# Altium footprint library IC_SOP.PcbLib: 32 footprints (part 3 of 4)
Each footprint in its own frame and in the unit in brackets; x right, y up, seen from the top. Pads: shape width x height; smd on the part's side, far side on the other; paste and mask are expansions set on the pad; w line width, h text height; cw(c..) or ccw(c..) is an arc to the next point about the centre after c.
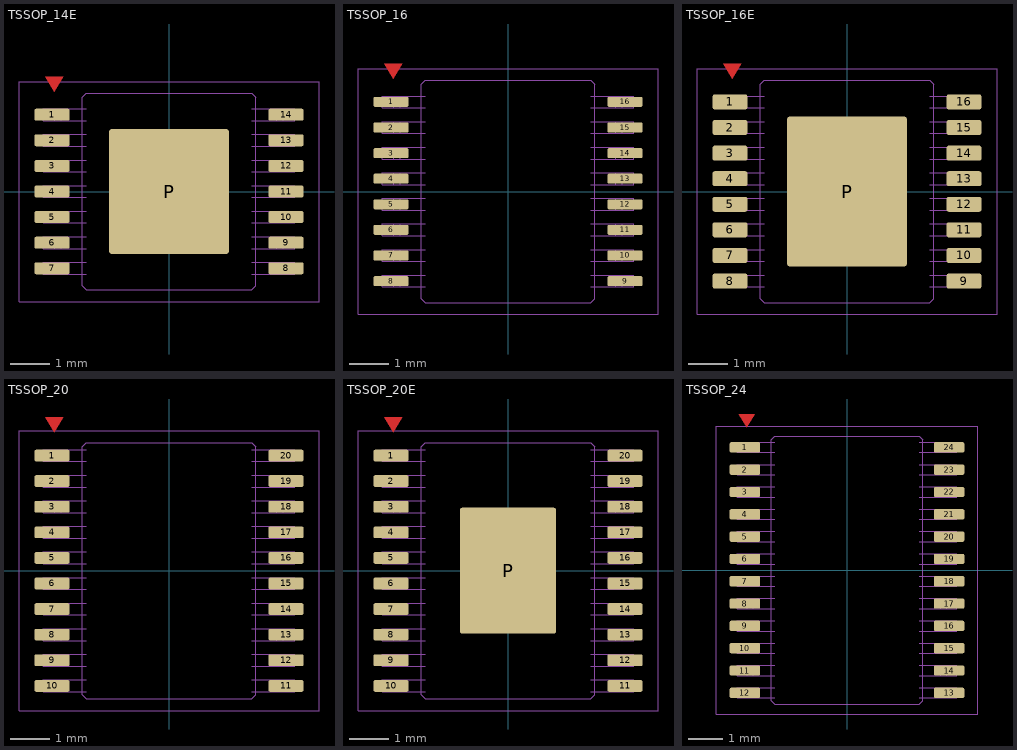
[diagram p2: the footprints below, top view; thin cyan lines are the x and y axes]

## TSSOP_14E [mil]
pads (15):
  rrect30% 35x12 smd mask+2: 1(-117,76.77) 2(-117,51.18) 3(-117,25.59) 4(-117,0) 5(-117,-25.59) 6(-117,-51.18) 7(-117,-76.77) 8(117,-76.77) 9(117,-51.18) 10(117,-25.59) 11(117,0) 12(117,25.59) 13(117,51.18) 14(117,76.77)
  rrect5% 120x125 smd paste-200 mask+2: P(0,0)
Top Layer:
  region: -115,100 -106,115 -124,115
Top Paste:
  rectangle: -55,-55 -25,-25
  rectangle: -55,-15 -25,15
  rectangle: -55,25 -25,55
  rectangle: 25,25 55,55
  rectangle: 25,-15 55,15
  rectangle: 25,-55 55,-25
  rectangle: -15,-55 15,-25
  rectangle: -15,-15 15,15
  rectangle: -15,25 15,55
Mechanical 15:
  lines w1: -150,-110 150,-110 150,110 -150,110 -150,-110
Mechanical 16:
  lines w1: -114.17,-82.68 -114.17,-70.87 ; -114.17,-57.09 -114.17,-45.28 ; -114.17,-31.5 -114.17,-19.68 ; -114.17,-5.91 -114.17,5.91 ; -114.17,19.68 -114.17,31.5 ; -114.17,45.28 -114.17,57.09 ; -114.17,70.87 -114.17,82.68 ; -107.53,-82.68 -107.53,-70.87 ; -107.53,-57.09 -107.53,-45.28 ; -107.53,-31.5 -107.53,-19.68 ; -107.53,-5.91 -107.53,5.91 ; -107.53,19.68 -107.53,31.5 ; -107.53,45.28 -107.53,57.09 ; -107.53,70.87 -107.53,82.68 ; -82.68,-82.68 -125.98,-82.68 -125.98,-70.87 -82.68,-70.87 ; -82.68,-57.09 -125.98,-57.09 -125.98,-45.28 -82.68,-45.28 ; -82.68,-31.5 -125.98,-31.5 -125.98,-19.68 -82.68,-19.68 ; -82.68,-5.91 -125.98,-5.91 -125.98,5.91 -82.68,5.91 ; -82.68,19.68 -125.98,19.68 -125.98,31.5 -82.68,31.5 ; -82.68,45.28 -125.98,45.28 -125.98,57.09 -82.68,57.09 ; -82.68,70.87 -125.98,70.87 -125.98,82.68 -82.68,82.68 ; 82.68,-82.68 125.98,-82.68 125.98,-70.87 82.68,-70.87 ; 82.68,-57.09 125.98,-57.09 125.98,-45.28 82.68,-45.28 ; 82.68,-31.5 125.98,-31.5 125.98,-19.68 82.68,-19.68 ; 82.68,-5.91 125.98,-5.91 125.98,5.91 82.68,5.91 ; 82.68,19.69 125.98,19.69 125.98,31.5 82.68,31.5 ; 82.68,45.28 125.98,45.28 125.98,57.09 82.68,57.09 ; 82.68,70.87 125.98,70.87 125.98,82.68 82.68,82.68 ; 107.53,-82.68 107.53,-70.87 ; 107.53,-57.09 107.53,-45.28 ; 107.53,-31.5 107.53,-19.68 ; 107.53,-5.91 107.53,5.91 ; 107.53,19.69 107.53,31.5 ; 107.53,45.28 107.53,57.09 ; 107.53,70.87 107.53,82.68 ; 114.17,-82.68 114.17,-70.87 ; 114.17,-57.09 114.17,-45.28 ; 114.17,-31.5 114.17,-19.68 ; 114.17,-5.91 114.17,5.91 ; 114.17,19.69 114.17,31.5 ; 114.17,45.28 114.17,57.09 ; 114.17,70.87 114.17,82.68 ; -86.61,-94.49 -86.61,94.49 -82.68,98.43 82.68,98.43 86.61,94.49 86.61,-94.49 82.68,-98.43 -82.68,-98.43 -86.61,-94.49
3D body: height 40, standoff 0, extent -86.61,-98.43 86.61,98.43
3D body: height 24, standoff 17, extent -107.53,70.87 -82.68,82.68
3D body: height 24, standoff 0, extent -114.17,70.87 -107.53,82.68
3D body: height 7, standoff 0, extent -125.98,70.87 -114.17,82.68
3D body: height 7, standoff 0, extent -125.98,45.28 -114.17,57.09
3D body: height 24, standoff 0, extent -114.17,45.28 -107.53,57.09
3D body: height 24, standoff 17, extent -107.53,45.28 -82.68,57.09
3D body: height 7, standoff 0, extent -125.98,19.68 -114.17,31.5
3D body: height 24, standoff 0, extent -114.17,19.68 -107.53,31.5
3D body: height 24, standoff 17, extent -107.53,19.68 -82.68,31.5
3D body: height 7, standoff 0, extent -125.98,-5.91 -114.17,5.91
3D body: height 24, standoff 0, extent -114.17,-5.91 -107.53,5.91
3D body: height 24, standoff 17, extent -107.53,-5.91 -82.68,5.91
3D body: height 7, standoff 0, extent -125.98,-31.5 -114.17,-19.68
3D body: height 24, standoff 0, extent -114.17,-31.5 -107.53,-19.68
3D body: height 24, standoff 17, extent -107.53,-31.5 -82.68,-19.68
3D body: height 7, standoff 0, extent -125.98,-57.09 -114.17,-45.28
3D body: height 24, standoff 0, extent -114.17,-57.09 -107.53,-45.28
3D body: height 24, standoff 17, extent -107.53,-57.09 -82.68,-45.28
3D body: height 7, standoff 0, extent -125.98,-82.68 -114.17,-70.87
3D body: height 24, standoff 0, extent -114.17,-82.68 -107.53,-70.87
3D body: height 24, standoff 17, extent -107.53,-82.68 -82.68,-70.87
3D body: height 24, standoff 17, extent 82.68,70.87 107.53,82.68
3D body: height 24, standoff 0, extent 107.53,70.87 114.17,82.68
3D body: height 7, standoff 0, extent 114.17,70.87 125.98,82.68
3D body: height 24, standoff 17, extent 82.68,45.28 107.53,57.09
3D body: height 24, standoff 0, extent 107.53,45.28 114.17,57.09
3D body: height 7, standoff 0, extent 114.17,45.28 125.98,57.09
3D body: height 24, standoff 17, extent 82.68,19.69 107.53,31.5
3D body: height 24, standoff 0, extent 107.53,19.69 114.17,31.5
3D body: height 7, standoff 0, extent 114.17,19.69 125.98,31.5
3D body: height 24, standoff 17, extent 82.68,-5.91 107.53,5.91
3D body: height 24, standoff 0, extent 107.53,-5.91 114.17,5.91
3D body: height 7, standoff 0, extent 114.17,-5.91 125.98,5.91
3D body: height 24, standoff 17, extent 82.68,-31.5 107.53,-19.68
3D body: height 24, standoff 0, extent 107.53,-31.5 114.17,-19.68
3D body: height 7, standoff 0, extent 114.17,-31.5 125.98,-19.68
3D body: height 24, standoff 17, extent 82.68,-57.09 107.53,-45.28
3D body: height 24, standoff 0, extent 107.53,-57.09 114.17,-45.28
3D body: height 7, standoff 0, extent 114.17,-57.09 125.98,-45.28
3D body: height 7, standoff 0, extent 114.17,-82.68 125.98,-70.87
3D body: height 24, standoff 0, extent 107.53,-82.68 114.17,-70.87
3D body: height 24, standoff 17, extent 82.68,-82.68 107.53,-70.87

## TSSOP_16 [mil]
pads (16):
  rrect30% 35x10 smd mask+2: 1(-117,89.57) 2(-117,63.98) 3(-117,38.39) 4(-117,12.8) 5(-117,-12.8) 6(-117,-38.39) 7(-117,-63.98) 8(-117,-89.57) 9(117,-89.57) 10(117,-63.98) 11(117,-38.39) 12(117,-12.8) 13(117,12.8) 14(117,38.39) 15(117,63.98) 16(117,89.57)
Top Layer:
  region: -115,112.8 -106,127.8 -124,127.8
Mechanical 15:
  lines w1: -150,-122.8 -150,122.8 150,122.8 150,-122.8 -150,-122.8
Mechanical 16:
  lines w1: -114.17,-95.47 -114.17,-83.66 ; -114.17,-69.88 -114.17,-58.07 ; -114.17,-44.29 -114.17,-32.48 ; -114.17,-18.7 -114.17,-6.89 ; -114.17,6.89 -114.17,18.7 ; -114.17,32.48 -114.17,44.29 ; -114.17,58.07 -114.17,69.88 ; -114.17,83.66 -114.17,95.47 ; -107.53,-95.47 -107.53,-83.66 ; -107.53,-69.88 -107.53,-58.07 ; -107.53,-44.29 -107.53,-32.48 ; -107.53,-18.7 -107.53,-6.89 ; -107.53,6.89 -107.53,18.7 ; -107.53,32.48 -107.53,44.29 ; -107.53,58.07 -107.53,69.88 ; -107.53,83.66 -107.53,95.47 ; -82.68,-95.47 -125.98,-95.47 -125.98,-83.66 -82.68,-83.66 ; -82.68,-69.88 -125.98,-69.88 -125.98,-58.07 -82.68,-58.07 ; -82.68,-44.29 -125.98,-44.29 -125.98,-32.48 -82.68,-32.48 ; -82.68,-18.7 -125.98,-18.7 -125.98,-6.89 -82.68,-6.89 ; -82.68,6.89 -125.98,6.89 -125.98,18.7 -82.68,18.7 ; -82.68,32.48 -125.98,32.48 -125.98,44.29 -82.68,44.29 ; -82.68,58.07 -125.98,58.07 -125.98,69.88 -82.68,69.88 ; -82.68,83.66 -125.98,83.66 -125.98,95.47 -82.68,95.47 ; 82.68,-95.47 125.98,-95.47 125.98,-83.66 82.68,-83.66 ; 82.68,-69.88 125.98,-69.88 125.98,-58.07 82.68,-58.07 ; 82.68,-44.29 125.98,-44.29 125.98,-32.48 82.68,-32.48 ; 82.68,-18.7 125.98,-18.7 125.98,-6.89 82.68,-6.89 ; 82.68,6.89 125.98,6.89 125.98,18.7 82.68,18.7 ; 82.68,32.48 125.98,32.48 125.98,44.29 82.68,44.29 ; 82.68,58.07 125.98,58.07 125.98,69.88 82.68,69.88 ; 82.68,83.66 125.98,83.66 125.98,95.47 82.68,95.47 ; 107.53,-95.47 107.53,-83.66 ; 107.53,-69.88 107.53,-58.07 ; 107.53,-44.29 107.53,-32.48 ; 107.53,-18.7 107.53,-6.89 ; 107.53,6.89 107.53,18.7 ; 107.53,32.48 107.53,44.29 ; 107.53,58.07 107.53,69.88 ; 107.53,83.66 107.53,95.47 ; 114.17,-95.47 114.17,-83.66 ; 114.17,-69.88 114.17,-58.07 ; 114.17,-44.29 114.17,-32.48 ; 114.17,-18.7 114.17,-6.89 ; 114.17,6.89 114.17,18.7 ; 114.17,32.48 114.17,44.29 ; 114.17,58.07 114.17,69.88 ; 114.17,83.66 114.17,95.47 ; -86.61,-107.28 -86.61,107.28 -82.68,111.22 82.68,111.22 86.61,107.28 86.61,-107.28 82.68,-111.22 -82.68,-111.22 -86.61,-107.28
3D body: height 7, standoff 0, extent -125.98,-95.47 -114.17,-83.66
3D body: height 24, standoff 0, extent -114.17,-95.47 -107.53,-83.66
3D body: height 24, standoff 17, extent -107.53,-95.47 -82.68,-83.66
3D body: height 7, standoff 0, extent 114.17,-95.47 125.98,-83.66
3D body: height 24, standoff 0, extent 107.53,-95.47 114.17,-83.66
3D body: height 24, standoff 17, extent 82.68,-95.47 107.53,-83.66
3D body: height 24, standoff 17, extent 82.68,-69.88 107.53,-58.07
3D body: height 24, standoff 0, extent 107.53,-69.88 114.17,-58.07
3D body: height 7, standoff 0, extent 114.17,-69.88 125.98,-58.07
3D body: height 7, standoff 0, extent 114.17,-44.29 125.98,-32.48
3D body: height 24, standoff 0, extent 107.53,-44.29 114.17,-32.48
3D body: height 24, standoff 17, extent 82.68,-44.29 107.53,-32.48
3D body: height 7, standoff 0, extent 114.17,-18.7 125.98,-6.89
3D body: height 24, standoff 0, extent 107.53,-18.7 114.17,-6.89
3D body: height 24, standoff 17, extent 82.68,-18.7 107.53,-6.89
3D body: height 7, standoff 0, extent 114.17,6.89 125.98,18.7
3D body: height 24, standoff 0, extent 107.53,6.89 114.17,18.7
3D body: height 24, standoff 17, extent 82.68,6.89 107.53,18.7
3D body: height 7, standoff 0, extent 114.17,32.48 125.98,44.29
3D body: height 24, standoff 0, extent 107.53,32.48 114.17,44.29
3D body: height 24, standoff 17, extent 82.68,32.48 107.53,44.29
3D body: height 7, standoff 0, extent 114.17,58.07 125.98,69.88
3D body: height 24, standoff 0, extent 107.53,58.07 114.17,69.88
3D body: height 24, standoff 17, extent 82.68,58.07 107.53,69.88
3D body: height 7, standoff 0, extent 114.17,83.66 125.98,95.47
3D body: height 24, standoff 0, extent 107.53,83.66 114.17,95.47
3D body: height 24, standoff 17, extent 82.68,83.66 107.53,95.47
3D body: height 24, standoff 17, extent -107.53,-69.88 -82.68,-58.07
3D body: height 24, standoff 0, extent -114.17,-69.88 -107.53,-58.07
3D body: height 7, standoff 0, extent -125.98,-69.88 -114.17,-58.07
3D body: height 24, standoff 17, extent -107.53,-44.29 -82.68,-32.48
3D body: height 24, standoff 0, extent -114.17,-44.29 -107.53,-32.48
3D body: height 7, standoff 0, extent -125.98,-44.29 -114.17,-32.48
3D body: height 24, standoff 17, extent -107.53,-18.7 -82.68,-6.89
3D body: height 24, standoff 0, extent -114.17,-18.7 -107.53,-6.89
3D body: height 7, standoff 0, extent -125.98,-18.7 -114.17,-6.89
3D body: height 24, standoff 17, extent -107.53,6.89 -82.68,18.7
3D body: height 24, standoff 0, extent -114.17,6.89 -107.53,18.7
3D body: height 7, standoff 0, extent -125.98,6.89 -114.17,18.7
3D body: height 24, standoff 17, extent -107.53,32.48 -82.68,44.29
3D body: height 24, standoff 0, extent -114.17,32.48 -107.53,44.29
3D body: height 7, standoff 0, extent -125.98,32.48 -114.17,44.29
3D body: height 24, standoff 17, extent -107.53,58.07 -82.68,69.88
3D body: height 24, standoff 0, extent -114.17,58.07 -107.53,69.88
3D body: height 7, standoff 0, extent -125.98,58.07 -114.17,69.88
3D body: height 7, standoff 0, extent -125.98,83.66 -114.17,95.47
3D body: height 24, standoff 0, extent -114.17,83.66 -107.53,95.47
3D body: height 24, standoff 17, extent -107.53,83.66 -82.68,95.47
3D body: height 40, standoff 0, extent -86.61,-111.22 86.61,111.22

## TSSOP_16E [mil]
pads (17):
  rrect30% 35x15 smd mask+2: 1(-117,89.57) 2(-117,63.98) 3(-117,38.39) 4(-117,12.8) 5(-117,-12.8) 6(-117,-38.39) 7(-117,-63.98) 8(-117,-89.57) 9(117,-89.57) 10(117,-63.98) 11(117,-38.39) 12(117,-12.8) 13(117,12.8) 14(117,38.39) 15(117,63.98) 16(117,89.57)
  rrect5% 120x150 smd paste-200 mask+2: P(0,0)
Top Layer:
  region: -115,112.8 -106,127.8 -124,127.8
Top Paste:
  rectangle: -55,-55 -25,-25
  rectangle: -55,-15 -25,15
  rectangle: -55,25 -25,55
  rectangle: 25,25 55,55
  rectangle: 25,-15 55,15
  rectangle: 25,-55 55,-25
  rectangle: -15,-55 15,-25
  rectangle: -15,-15 15,15
  rectangle: -15,25 15,55
Mechanical 15:
  lines w1: -150,-122.8 -150,122.8 150,122.8 150,-122.8 -150,-122.8
Mechanical 16:
  lines w1: -114.17,-95.47 -114.17,-83.66 ; -114.17,-69.88 -114.17,-58.07 ; -114.17,-44.29 -114.17,-32.48 ; -114.17,-18.7 -114.17,-6.89 ; -114.17,6.89 -114.17,18.7 ; -114.17,32.48 -114.17,44.29 ; -114.17,58.07 -114.17,69.88 ; -114.17,83.66 -114.17,95.47 ; -107.53,-95.47 -107.53,-83.66 ; -107.53,-69.88 -107.53,-58.07 ; -107.53,-44.29 -107.53,-32.48 ; -107.53,-18.7 -107.53,-6.89 ; -107.53,6.89 -107.53,18.7 ; -107.53,32.48 -107.53,44.29 ; -107.53,58.07 -107.53,69.88 ; -107.53,83.66 -107.53,95.47 ; -82.68,-95.47 -125.98,-95.47 -125.98,-83.66 -82.68,-83.66 ; -82.68,-69.88 -125.98,-69.88 -125.98,-58.07 -82.68,-58.07 ; -82.68,-44.29 -125.98,-44.29 -125.98,-32.48 -82.68,-32.48 ; -82.68,-18.7 -125.98,-18.7 -125.98,-6.89 -82.68,-6.89 ; -82.68,6.89 -125.98,6.89 -125.98,18.7 -82.68,18.7 ; -82.68,32.48 -125.98,32.48 -125.98,44.29 -82.68,44.29 ; -82.68,58.07 -125.98,58.07 -125.98,69.88 -82.68,69.88 ; -82.68,83.66 -125.98,83.66 -125.98,95.47 -82.68,95.47 ; 82.68,-95.47 125.98,-95.47 125.98,-83.66 82.68,-83.66 ; 82.68,-69.88 125.98,-69.88 125.98,-58.07 82.68,-58.07 ; 82.68,-44.29 125.98,-44.29 125.98,-32.48 82.68,-32.48 ; 82.68,-18.7 125.98,-18.7 125.98,-6.89 82.68,-6.89 ; 82.68,6.89 125.98,6.89 125.98,18.7 82.68,18.7 ; 82.68,32.48 125.98,32.48 125.98,44.29 82.68,44.29 ; 82.68,58.07 125.98,58.07 125.98,69.88 82.68,69.88 ; 82.68,83.66 125.98,83.66 125.98,95.47 82.68,95.47 ; 107.53,-95.47 107.53,-83.66 ; 107.53,-69.88 107.53,-58.07 ; 107.53,-44.29 107.53,-32.48 ; 107.53,-18.7 107.53,-6.89 ; 107.53,6.89 107.53,18.7 ; 107.53,32.48 107.53,44.29 ; 107.53,58.07 107.53,69.88 ; 107.53,83.66 107.53,95.47 ; 114.17,-95.47 114.17,-83.66 ; 114.17,-69.88 114.17,-58.07 ; 114.17,-44.29 114.17,-32.48 ; 114.17,-18.7 114.17,-6.89 ; 114.17,6.89 114.17,18.7 ; 114.17,32.48 114.17,44.29 ; 114.17,58.07 114.17,69.88 ; 114.17,83.66 114.17,95.47 ; -86.61,-107.28 -86.61,107.28 -82.68,111.22 82.68,111.22 86.61,107.28 86.61,-107.28 82.68,-111.22 -82.68,-111.22 -86.61,-107.28
3D body: height 7, standoff 0, extent -125.98,-95.47 -114.17,-83.66
3D body: height 24, standoff 0, extent -114.17,-95.47 -107.53,-83.66
3D body: height 24, standoff 17, extent -107.53,-95.47 -82.68,-83.66
3D body: height 7, standoff 0, extent 114.17,-95.47 125.98,-83.66
3D body: height 24, standoff 0, extent 107.53,-95.47 114.17,-83.66
3D body: height 24, standoff 17, extent 82.68,-95.47 107.53,-83.66
3D body: height 24, standoff 17, extent 82.68,-69.88 107.53,-58.07
3D body: height 24, standoff 0, extent 107.53,-69.88 114.17,-58.07
3D body: height 7, standoff 0, extent 114.17,-69.88 125.98,-58.07
3D body: height 7, standoff 0, extent 114.17,-44.29 125.98,-32.48
3D body: height 24, standoff 0, extent 107.53,-44.29 114.17,-32.48
3D body: height 24, standoff 17, extent 82.68,-44.29 107.53,-32.48
3D body: height 7, standoff 0, extent 114.17,-18.7 125.98,-6.89
3D body: height 24, standoff 0, extent 107.53,-18.7 114.17,-6.89
3D body: height 24, standoff 17, extent 82.68,-18.7 107.53,-6.89
3D body: height 7, standoff 0, extent 114.17,6.89 125.98,18.7
3D body: height 24, standoff 0, extent 107.53,6.89 114.17,18.7
3D body: height 24, standoff 17, extent 82.68,6.89 107.53,18.7
3D body: height 7, standoff 0, extent 114.17,32.48 125.98,44.29
3D body: height 24, standoff 0, extent 107.53,32.48 114.17,44.29
3D body: height 24, standoff 17, extent 82.68,32.48 107.53,44.29
3D body: height 7, standoff 0, extent 114.17,58.07 125.98,69.88
3D body: height 24, standoff 0, extent 107.53,58.07 114.17,69.88
3D body: height 24, standoff 17, extent 82.68,58.07 107.53,69.88
3D body: height 7, standoff 0, extent 114.17,83.66 125.98,95.47
3D body: height 24, standoff 0, extent 107.53,83.66 114.17,95.47
3D body: height 24, standoff 17, extent 82.68,83.66 107.53,95.47
3D body: height 24, standoff 17, extent -107.53,-69.88 -82.68,-58.07
3D body: height 24, standoff 0, extent -114.17,-69.88 -107.53,-58.07
3D body: height 7, standoff 0, extent -125.98,-69.88 -114.17,-58.07
3D body: height 24, standoff 17, extent -107.53,-44.29 -82.68,-32.48
3D body: height 24, standoff 0, extent -114.17,-44.29 -107.53,-32.48
3D body: height 7, standoff 0, extent -125.98,-44.29 -114.17,-32.48
3D body: height 24, standoff 17, extent -107.53,-18.7 -82.68,-6.89
3D body: height 24, standoff 0, extent -114.17,-18.7 -107.53,-6.89
3D body: height 7, standoff 0, extent -125.98,-18.7 -114.17,-6.89
3D body: height 24, standoff 17, extent -107.53,6.89 -82.68,18.7
3D body: height 24, standoff 0, extent -114.17,6.89 -107.53,18.7
3D body: height 7, standoff 0, extent -125.98,6.89 -114.17,18.7
3D body: height 24, standoff 17, extent -107.53,32.48 -82.68,44.29
3D body: height 24, standoff 0, extent -114.17,32.48 -107.53,44.29
3D body: height 7, standoff 0, extent -125.98,32.48 -114.17,44.29
3D body: height 24, standoff 17, extent -107.53,58.07 -82.68,69.88
3D body: height 24, standoff 0, extent -114.17,58.07 -107.53,69.88
3D body: height 7, standoff 0, extent -125.98,58.07 -114.17,69.88
3D body: height 7, standoff 0, extent -125.98,83.66 -114.17,95.47
3D body: height 24, standoff 0, extent -114.17,83.66 -107.53,95.47
3D body: height 24, standoff 17, extent -107.53,83.66 -82.68,95.47
3D body: height 40, standoff 0, extent -86.61,-111.22 86.61,111.22

## TSSOP_20 [mil]
pads (20):
  rrect30% 35x11.81 smd mask+2: 1(-117,115.16) 2(-117,89.57) 3(-117,63.98) 4(-117,38.39) 5(-117,12.8) 6(-117,-12.8) 7(-117,-38.39) 8(-117,-63.98) 9(-117,-89.57) 10(-117,-115.16) 11(117,-115.16) 12(117,-89.57) 13(117,-63.98) 14(117,-38.39) 15(117,-12.8) 16(117,12.8) 17(117,38.39) 18(117,63.98) 19(117,89.57) 20(117,115.16)
Top Layer:
  region: -115,138.39 -106,153.39 -124,153.39
Mechanical 15:
  lines w1: -150,-140 -150,140 150,140 150,-140 -150,-140
Mechanical 16:
  lines w1: -114.17,-121.06 -114.17,-109.25 ; -114.17,-95.47 -114.17,-83.66 ; -114.17,-69.88 -114.17,-58.07 ; -114.17,-44.29 -114.17,-32.48 ; -114.17,-18.7 -114.17,-6.89 ; -114.17,6.89 -114.17,18.7 ; -114.17,32.48 -114.17,44.29 ; -114.17,58.07 -114.17,69.88 ; -114.17,83.66 -114.17,95.47 ; -114.17,109.25 -114.17,121.06 ; -107.53,-121.06 -107.53,-109.25 ; -107.53,-95.47 -107.53,-83.66 ; -107.53,-69.88 -107.53,-58.07 ; -107.53,-44.29 -107.53,-32.48 ; -107.53,-18.7 -107.53,-6.89 ; -107.53,6.89 -107.53,18.7 ; -107.53,32.48 -107.53,44.29 ; -107.53,58.07 -107.53,69.88 ; -107.53,83.66 -107.53,95.47 ; -107.53,109.25 -107.53,121.06 ; -82.68,-121.06 -125.98,-121.06 -125.98,-109.25 -82.68,-109.25 ; -82.68,-95.47 -125.98,-95.47 -125.98,-83.66 -82.68,-83.66 ; -82.68,-69.88 -125.98,-69.88 -125.98,-58.07 -82.68,-58.07 ; -82.68,-44.29 -125.98,-44.29 -125.98,-32.48 -82.68,-32.48 ; -82.68,-18.7 -125.98,-18.7 -125.98,-6.89 -82.68,-6.89 ; -82.68,6.89 -125.98,6.89 -125.98,18.7 -82.68,18.7 ; -82.68,32.48 -125.98,32.48 -125.98,44.29 -82.68,44.29 ; -82.68,58.07 -125.98,58.07 -125.98,69.88 -82.68,69.88 ; -82.68,83.66 -125.98,83.66 -125.98,95.47 -82.68,95.47 ; -82.68,109.25 -125.98,109.25 -125.98,121.06 -82.68,121.06 ; 82.68,-121.06 125.98,-121.06 125.98,-109.25 82.68,-109.25 ; 82.68,-95.47 125.98,-95.47 125.98,-83.66 82.68,-83.66 ; 82.68,-69.88 125.98,-69.88 125.98,-58.07 82.68,-58.07 ; 82.68,-44.29 125.98,-44.29 125.98,-32.48 82.68,-32.48 ; 82.68,-18.7 125.98,-18.7 125.98,-6.89 82.68,-6.89 ; 82.68,6.89 125.98,6.89 125.98,18.7 82.68,18.7 ; 82.68,32.48 125.98,32.48 125.98,44.29 82.68,44.29 ; 82.68,58.07 125.98,58.07 125.98,69.88 82.68,69.88 ; 82.68,83.66 125.98,83.66 125.98,95.47 82.68,95.47 ; 82.68,109.25 125.98,109.25 125.98,121.06 82.68,121.06 ; 107.53,-121.06 107.53,-109.25 ; 107.53,-95.47 107.53,-83.66 ; 107.53,-69.88 107.53,-58.07 ; 107.53,-44.29 107.53,-32.48 ; 107.53,-18.7 107.53,-6.89 ; 107.53,6.89 107.53,18.7 ; 107.53,32.48 107.53,44.29 ; 107.53,58.07 107.53,69.88 ; 107.53,83.66 107.53,95.47 ; 107.53,109.25 107.53,121.06 ; 114.17,-121.06 114.17,-109.25 ; 114.17,-95.47 114.17,-83.66 ; 114.17,-69.88 114.17,-58.07 ; 114.17,-44.29 114.17,-32.48 ; 114.17,-18.7 114.17,-6.89 ; 114.17,6.89 114.17,18.7 ; 114.17,32.48 114.17,44.29 ; 114.17,58.07 114.17,69.88 ; 114.17,83.66 114.17,95.47 ; 114.17,109.25 114.17,121.06 ; 86.62,124.02 86.61,-124.02 82.68,-127.95 -82.68,-127.95 -86.61,-124.02 -86.61,124.02 -82.68,127.95 82.68,127.95 86.61,124.02 ; 86.61,124.02 86.62,124.02
3D body: height 24, standoff 17, extent 82.68,-121.06 107.53,-109.25
3D body: height 24, standoff 0, extent 107.53,-121.06 114.17,-109.25
3D body: height 7, standoff 0, extent 114.17,-121.06 125.98,-109.25
3D body: height 24, standoff 17, extent -107.53,-121.06 -82.68,-109.25
3D body: height 24, standoff 0, extent -114.17,-121.06 -107.53,-109.25
3D body: height 7, standoff 0, extent -125.98,-121.06 -114.17,-109.25
3D body: height 24, standoff 17, extent 82.68,-95.47 107.53,-83.66
3D body: height 24, standoff 0, extent 107.53,-95.47 114.17,-83.66
3D body: height 7, standoff 0, extent 114.17,-95.47 125.98,-83.66
3D body: height 24, standoff 17, extent -107.53,-95.47 -82.68,-83.66
3D body: height 24, standoff 0, extent -114.17,-95.47 -107.53,-83.66
3D body: height 7, standoff 0, extent -125.98,-95.47 -114.17,-83.66
3D body: height 40, standoff 0, extent -86.61,-127.95 86.61,127.95
3D body: height 24, standoff 17, extent -107.53,109.25 -82.68,121.06
3D body: height 24, standoff 0, extent -114.17,109.25 -107.53,121.06
3D body: height 7, standoff 0, extent -125.98,109.25 -114.17,121.06
3D body: height 7, standoff 0, extent -125.98,83.66 -114.17,95.47
3D body: height 24, standoff 0, extent -114.17,83.66 -107.53,95.47
3D body: height 24, standoff 17, extent -107.53,83.66 -82.68,95.47
3D body: height 7, standoff 0, extent -125.98,58.07 -114.17,69.88
3D body: height 24, standoff 0, extent -114.17,58.07 -107.53,69.88
3D body: height 24, standoff 17, extent -107.53,58.07 -82.68,69.88
3D body: height 7, standoff 0, extent -125.98,32.48 -114.17,44.29
3D body: height 24, standoff 0, extent -114.17,32.48 -107.53,44.29
3D body: height 24, standoff 17, extent -107.53,32.48 -82.68,44.29
3D body: height 7, standoff 0, extent -125.98,6.89 -114.17,18.7
3D body: height 24, standoff 0, extent -114.17,6.89 -107.53,18.7
3D body: height 24, standoff 17, extent -107.53,6.89 -82.68,18.7
3D body: height 7, standoff 0, extent -125.98,-18.7 -114.17,-6.89
3D body: height 24, standoff 0, extent -114.17,-18.7 -107.53,-6.89
3D body: height 24, standoff 17, extent -107.53,-18.7 -82.68,-6.89
3D body: height 7, standoff 0, extent -125.98,-44.29 -114.17,-32.48
3D body: height 24, standoff 0, extent -114.17,-44.29 -107.53,-32.48
3D body: height 24, standoff 17, extent -107.53,-44.29 -82.68,-32.48
3D body: height 24, standoff 17, extent 82.68,109.25 107.53,121.06
3D body: height 24, standoff 0, extent 107.53,109.25 114.17,121.06
3D body: height 7, standoff 0, extent 114.17,109.25 125.98,121.06
3D body: height 24, standoff 17, extent 82.68,83.66 107.53,95.47
3D body: height 24, standoff 0, extent 107.53,83.66 114.17,95.47
3D body: height 7, standoff 0, extent 114.17,83.66 125.98,95.47
3D body: height 24, standoff 17, extent 82.68,58.07 107.53,69.88
3D body: height 24, standoff 0, extent 107.53,58.07 114.17,69.88
3D body: height 7, standoff 0, extent 114.17,58.07 125.98,69.88
3D body: height 24, standoff 17, extent 82.68,32.48 107.53,44.29
3D body: height 24, standoff 0, extent 107.53,32.48 114.17,44.29
3D body: height 7, standoff 0, extent 114.17,32.48 125.98,44.29
3D body: height 24, standoff 17, extent 82.68,6.89 107.53,18.7
3D body: height 24, standoff 0, extent 107.53,6.89 114.17,18.7
3D body: height 7, standoff 0, extent 114.17,6.89 125.98,18.7
3D body: height 24, standoff 17, extent 82.68,-18.7 107.53,-6.89
3D body: height 24, standoff 0, extent 107.53,-18.7 114.17,-6.89
3D body: height 7, standoff 0, extent 114.17,-18.7 125.98,-6.89
3D body: height 7, standoff 0, extent 114.17,-44.29 125.98,-32.48
3D body: height 24, standoff 0, extent 107.53,-44.29 114.17,-32.48
3D body: height 24, standoff 17, extent 82.68,-44.29 107.53,-32.48
3D body: height 24, standoff 17, extent 82.68,-69.88 107.53,-58.07
3D body: height 24, standoff 0, extent 107.53,-69.88 114.17,-58.07
3D body: height 7, standoff 0, extent 114.17,-69.88 125.98,-58.07
3D body: height 24, standoff 17, extent -107.53,-69.88 -82.68,-58.07
3D body: height 24, standoff 0, extent -114.17,-69.88 -107.53,-58.07
3D body: height 7, standoff 0, extent -125.98,-69.88 -114.17,-58.07

## TSSOP_20E [mm]
pads (21):
  rrect30% 0.889x0.3 smd mask+0.051: 1(-2.972,2.925) 2(-2.972,2.275) 3(-2.972,1.625) 4(-2.972,0.975) 5(-2.972,0.325) 6(-2.972,-0.325) 7(-2.972,-0.975) 8(-2.972,-1.625) 9(-2.972,-2.275) 10(-2.972,-2.925) 11(2.972,-2.925) 12(2.972,-2.275) 13(2.972,-1.625) 14(2.972,-0.975) 15(2.972,-0.325) 16(2.972,0.325) 17(2.972,0.975) 18(2.972,1.625) 19(2.972,2.275) 20(2.972,2.925)
  rrect5% 2.45x3.2 smd paste-5.08 mask+0.051: P(0,0)
Top Layer:
  region: -2.921,3.515 -2.692,3.896 -3.15,3.896
Top Paste:
  rectangle: -0.381,0.635 0.381,1.397
  rectangle: -0.381,-0.381 0.381,0.381
  rectangle: -0.381,-1.397 0.381,-0.635
  rectangle: 0.635,-1.397 1.143,-0.635
  rectangle: 0.635,-0.381 1.143,0.381
  rectangle: 0.635,0.635 1.143,1.397
  rectangle: -1.143,0.635 -0.635,1.397
  rectangle: -1.143,-0.381 -0.635,0.381
  rectangle: -1.143,-1.397 -0.635,-0.635
Mechanical 15:
  lines w0.025: -3.81,-3.556 3.81,-3.556 3.81,3.556 -3.81,3.556 -3.81,-3.556
Mechanical 16:
  lines w0.025: -2.9,-3.075 -2.9,-2.775 ; -2.9,-2.425 -2.9,-2.125 ; -2.9,-1.775 -2.9,-1.475 ; -2.9,-1.125 -2.9,-0.825 ; -2.9,-0.475 -2.9,-0.175 ; -2.9,0.175 -2.9,0.475 ; -2.9,0.825 -2.9,1.125 ; -2.9,1.475 -2.9,1.775 ; -2.9,2.125 -2.9,2.425 ; -2.9,2.775 -2.9,3.075 ; -2.731,-3.075 -2.731,-2.775 ; -2.731,-2.425 -2.731,-2.125 ; -2.731,-1.775 -2.731,-1.475 ; -2.731,-1.125 -2.731,-0.825 ; -2.731,-0.475 -2.731,-0.175 ; -2.731,0.175 -2.731,0.475 ; -2.731,0.825 -2.731,1.125 ; -2.731,1.475 -2.731,1.775 ; -2.731,2.125 -2.731,2.425 ; -2.731,2.775 -2.731,3.075 ; -2.1,-3.075 -3.2,-3.075 -3.2,-2.775 -2.1,-2.775 ; -2.1,-2.425 -3.2,-2.425 -3.2,-2.125 -2.1,-2.125 ; -2.1,-1.775 -3.2,-1.775 -3.2,-1.475 -2.1,-1.475 ; -2.1,-1.125 -3.2,-1.125 -3.2,-0.825 -2.1,-0.825 ; -2.1,-0.475 -3.2,-0.475 -3.2,-0.175 -2.1,-0.175 ; -2.1,0.175 -3.2,0.175 -3.2,0.475 -2.1,0.475 ; -2.1,0.825 -3.2,0.825 -3.2,1.125 -2.1,1.125 ; -2.1,1.475 -3.2,1.475 -3.2,1.775 -2.1,1.775 ; -2.1,2.125 -3.2,2.125 -3.2,2.425 -2.1,2.425 ; -2.1,2.775 -3.2,2.775 -3.2,3.075 -2.1,3.075 ; 2.1,-3.075 3.2,-3.075 3.2,-2.775 2.1,-2.775 ; 2.1,-2.425 3.2,-2.425 3.2,-2.125 2.1,-2.125 ; 2.1,-1.775 3.2,-1.775 3.2,-1.475 2.1,-1.475 ; 2.1,-1.125 3.2,-1.125 3.2,-0.825 2.1,-0.825 ; 2.1,-0.475 3.2,-0.475 3.2,-0.175 2.1,-0.175 ; 2.1,0.175 3.2,0.175 3.2,0.475 2.1,0.475 ; 2.1,0.825 3.2,0.825 3.2,1.125 2.1,1.125 ; 2.1,1.475 3.2,1.475 3.2,1.775 2.1,1.775 ; 2.1,2.125 3.2,2.125 3.2,2.425 2.1,2.425 ; 2.1,2.775 3.2,2.775 3.2,3.075 2.1,3.075 ; 2.731,-3.075 2.731,-2.775 ; 2.731,-2.425 2.731,-2.125 ; 2.731,-1.775 2.731,-1.475 ; 2.731,-1.125 2.731,-0.825 ; 2.731,-0.475 2.731,-0.175 ; 2.731,0.175 2.731,0.475 ; 2.731,0.825 2.731,1.125 ; 2.731,1.475 2.731,1.775 ; 2.731,2.125 2.731,2.425 ; 2.731,2.775 2.731,3.075 ; 2.9,-3.075 2.9,-2.775 ; 2.9,-2.425 2.9,-2.125 ; 2.9,-1.775 2.9,-1.475 ; 2.9,-1.125 2.9,-0.825 ; 2.9,-0.475 2.9,-0.175 ; 2.9,0.175 2.9,0.475 ; 2.9,0.825 2.9,1.125 ; 2.9,1.475 2.9,1.775 ; 2.9,2.125 2.9,2.425 ; 2.9,2.775 2.9,3.075 ; 2.2,3.15 2.1,3.25 -2.1,3.25 -2.2,3.15 -2.2,-3.15 -2.1,-3.25 2.1,-3.25 2.2,-3.15 2.2,3.15 ; 2.2,3.15 2.2,3.15
3D body: height 0.18, standoff 0, extent -3.2,-1.775 -2.9,-1.475
3D body: height 0.61, standoff 0, extent -2.9,-1.775 -2.731,-1.475
3D body: height 0.61, standoff 0.43, extent -2.731,-1.775 -2.1,-1.475
3D body: height 0.18, standoff 0, extent 2.9,-1.775 3.2,-1.475
3D body: height 0.61, standoff 0, extent 2.731,-1.775 2.9,-1.475
3D body: height 0.61, standoff 0.43, extent 2.1,-1.775 2.731,-1.475
3D body: height 0.61, standoff 0.43, extent 2.1,-1.125 2.731,-0.825
3D body: height 0.61, standoff 0, extent 2.731,-1.125 2.9,-0.825
3D body: height 0.18, standoff 0, extent 2.9,-1.125 3.2,-0.825
3D body: height 0.18, standoff 0, extent 2.9,-0.475 3.2,-0.175
3D body: height 0.61, standoff 0, extent 2.731,-0.475 2.9,-0.175
3D body: height 0.61, standoff 0.43, extent 2.1,-0.475 2.731,-0.175
3D body: height 0.18, standoff 0, extent 2.9,0.175 3.2,0.475
3D body: height 0.61, standoff 0, extent 2.731,0.175 2.9,0.475
3D body: height 0.61, standoff 0.43, extent 2.1,0.175 2.731,0.475
3D body: height 0.18, standoff 0, extent 2.9,0.825 3.2,1.125
3D body: height 0.61, standoff 0, extent 2.731,0.825 2.9,1.125
3D body: height 0.61, standoff 0.43, extent 2.1,0.825 2.731,1.125
3D body: height 0.18, standoff 0, extent 2.9,1.475 3.2,1.775
3D body: height 0.61, standoff 0, extent 2.731,1.475 2.9,1.775
3D body: height 0.61, standoff 0.43, extent 2.1,1.475 2.731,1.775
3D body: height 0.18, standoff 0, extent 2.9,2.125 3.2,2.425
3D body: height 0.61, standoff 0, extent 2.731,2.125 2.9,2.425
3D body: height 0.61, standoff 0.43, extent 2.1,2.125 2.731,2.425
3D body: height 0.18, standoff 0, extent 2.9,2.775 3.2,3.075
3D body: height 0.61, standoff 0, extent 2.731,2.775 2.9,3.075
3D body: height 0.61, standoff 0.43, extent 2.1,2.775 2.731,3.075
3D body: height 0.61, standoff 0.43, extent -2.731,-1.125 -2.1,-0.825
3D body: height 0.61, standoff 0, extent -2.9,-1.125 -2.731,-0.825
3D body: height 0.18, standoff 0, extent -3.2,-1.125 -2.9,-0.825
3D body: height 0.61, standoff 0.43, extent -2.731,-0.475 -2.1,-0.175
3D body: height 0.61, standoff 0, extent -2.9,-0.475 -2.731,-0.175
3D body: height 0.18, standoff 0, extent -3.2,-0.475 -2.9,-0.175
3D body: height 0.61, standoff 0.43, extent -2.731,0.175 -2.1,0.475
3D body: height 0.61, standoff 0, extent -2.9,0.175 -2.731,0.475
3D body: height 0.18, standoff 0, extent -3.2,0.175 -2.9,0.475
3D body: height 0.61, standoff 0.43, extent -2.731,0.825 -2.1,1.125
3D body: height 0.61, standoff 0, extent -2.9,0.825 -2.731,1.125
3D body: height 0.18, standoff 0, extent -3.2,0.825 -2.9,1.125
3D body: height 0.61, standoff 0.43, extent -2.731,1.475 -2.1,1.775
3D body: height 0.61, standoff 0, extent -2.9,1.475 -2.731,1.775
3D body: height 0.18, standoff 0, extent -3.2,1.475 -2.9,1.775
3D body: height 0.61, standoff 0.43, extent -2.731,2.125 -2.1,2.425
3D body: height 0.61, standoff 0, extent -2.9,2.125 -2.731,2.425
3D body: height 0.18, standoff 0, extent -3.2,2.125 -2.9,2.425
3D body: height 0.18, standoff 0, extent -3.2,2.775 -2.9,3.075
3D body: height 0.61, standoff 0, extent -2.9,2.775 -2.731,3.075
3D body: height 0.61, standoff 0.43, extent -2.731,2.775 -2.1,3.075
3D body: height 1.02, standoff 0, extent -2.2,-3.25 2.2,3.25
3D body: height 0.18, standoff 0, extent -3.2,-2.425 -2.9,-2.125
3D body: height 0.61, standoff 0, extent -2.9,-2.425 -2.731,-2.125
3D body: height 0.61, standoff 0.43, extent -2.731,-2.425 -2.1,-2.125
3D body: height 0.18, standoff 0, extent 2.9,-2.425 3.2,-2.125
3D body: height 0.61, standoff 0, extent 2.731,-2.425 2.9,-2.125
3D body: height 0.61, standoff 0.43, extent 2.1,-2.425 2.731,-2.125
3D body: height 0.18, standoff 0, extent -3.2,-3.075 -2.9,-2.775
3D body: height 0.61, standoff 0, extent -2.9,-3.075 -2.731,-2.775
3D body: height 0.61, standoff 0.43, extent -2.731,-3.075 -2.1,-2.775
3D body: height 0.18, standoff 0, extent 2.9,-3.075 3.2,-2.775
3D body: height 0.61, standoff 0, extent 2.731,-3.075 2.9,-2.775
3D body: height 0.61, standoff 0.43, extent 2.1,-3.075 2.731,-2.775

## TSSOP_24 [mil]
pads (24):
  rrect30% 35x11.81 smd mask+2: 1(-117,140.75) 2(-117,115.16) 3(-117,89.57) 4(-117,63.98) 5(-117,38.39) 6(-117,12.8) 7(-117,-12.8) 8(-117,-38.39) 9(-117,-63.98) 10(-117,-89.57) 11(-117,-115.16) 12(-117,-140.75) 13(117,-140.75) 14(117,-115.16) 15(117,-89.57) 16(117,-63.98) 17(117,-38.39) 18(117,-12.8) 19(117,12.8) 20(117,38.39) 21(117,63.98) 22(117,89.57) 23(117,115.16) 24(117,140.75)
Top Layer:
  region: -115,163.98 -106,178.98 -124,178.98
Mechanical 15:
  lines w1: -150,-165 -150,165 150,165 150,-165 -150,-165
Mechanical 16:
  lines w1: -114.17,-146.65 -114.17,-134.84 ; -114.17,-121.06 -114.17,-109.25 ; -114.17,-95.47 -114.17,-83.66 ; -114.17,-69.88 -114.17,-58.07 ; -114.17,-44.29 -114.17,-32.48 ; -114.17,-18.7 -114.17,-6.89 ; -114.17,6.89 -114.17,18.7 ; -114.17,32.48 -114.17,44.29 ; -114.17,58.07 -114.17,69.88 ; -114.17,83.66 -114.17,95.47 ; -114.17,109.25 -114.17,121.06 ; -114.17,134.84 -114.17,146.65 ; -107.53,-146.65 -107.53,-134.84 ; -107.53,-121.06 -107.53,-109.25 ; -107.53,-95.47 -107.53,-83.66 ; -107.53,-69.88 -107.53,-58.07 ; -107.53,-44.29 -107.53,-32.48 ; -107.53,-18.7 -107.53,-6.89 ; -107.53,6.89 -107.53,18.7 ; -107.53,32.48 -107.53,44.29 ; -107.53,58.07 -107.53,69.88 ; -107.53,83.66 -107.53,95.47 ; -107.53,109.25 -107.53,121.06 ; -107.53,134.84 -107.53,146.65 ; -82.68,-146.65 -125.98,-146.65 -125.98,-134.84 -82.68,-134.84 ; -82.68,-121.06 -125.98,-121.06 -125.98,-109.25 -82.68,-109.25 ; -82.68,-95.47 -125.98,-95.47 -125.98,-83.66 -82.68,-83.66 ; -82.68,-69.88 -125.98,-69.88 -125.98,-58.07 -82.68,-58.07 ; -82.68,-44.29 -125.98,-44.29 -125.98,-32.48 -82.68,-32.48 ; -82.68,-18.7 -125.98,-18.7 -125.98,-6.89 -82.68,-6.89 ; -82.68,6.89 -125.98,6.89 -125.98,18.7 -82.68,18.7 ; -82.68,32.48 -125.98,32.48 -125.98,44.29 -82.68,44.29 ; -82.68,58.07 -125.98,58.07 -125.98,69.88 -82.68,69.88 ; -82.68,83.66 -125.98,83.66 -125.98,95.47 -82.68,95.47 ; -82.68,109.25 -125.98,109.25 -125.98,121.06 -82.68,121.06 ; -82.68,134.84 -125.98,134.84 -125.98,146.65 -82.68,146.65 ; 82.68,-146.65 125.98,-146.65 125.98,-134.84 82.68,-134.84 ; 82.68,-121.06 125.98,-121.06 125.98,-109.25 82.68,-109.25 ; 82.68,-95.47 125.98,-95.47 125.98,-83.66 82.68,-83.66 ; 82.68,-69.88 125.98,-69.88 125.98,-58.07 82.68,-58.07 ; 82.68,-44.29 125.98,-44.29 125.98,-32.48 82.68,-32.48 ; 82.68,-18.7 125.98,-18.7 125.98,-6.89 82.68,-6.89 ; 82.68,6.89 125.98,6.89 125.98,18.7 82.68,18.7 ; 82.68,32.48 125.98,32.48 125.98,44.29 82.68,44.29 ; 82.68,58.07 125.98,58.07 125.98,69.88 82.68,69.88 ; 82.68,83.66 125.98,83.66 125.98,95.47 82.68,95.47 ; 82.68,109.25 125.98,109.25 125.98,121.06 82.68,121.06 ; 82.68,134.84 125.98,134.84 125.98,146.65 82.68,146.65 ; 107.53,-146.65 107.53,-134.84 ; 107.53,-121.06 107.53,-109.25 ; 107.53,-95.47 107.53,-83.66 ; 107.53,-69.88 107.53,-58.07 ; 107.53,-44.29 107.53,-32.48 ; 107.53,-18.7 107.53,-6.89 ; 107.53,6.89 107.53,18.7 ; 107.53,32.48 107.53,44.29 ; 107.53,58.07 107.53,69.88 ; 107.53,83.66 107.53,95.47 ; 107.53,109.25 107.53,121.06 ; 107.53,134.84 107.53,146.65 ; 114.17,-146.65 114.17,-134.84 ; 114.17,-121.06 114.17,-109.25 ; 114.17,-95.47 114.17,-83.66 ; 114.17,-69.88 114.17,-58.07 ; 114.17,-44.29 114.17,-32.48 ; 114.17,-18.7 114.17,-6.89 ; 114.17,6.89 114.17,18.7 ; 114.17,32.48 114.17,44.29 ; 114.17,58.07 114.17,69.88 ; 114.17,83.66 114.17,95.47 ; 114.17,109.25 114.17,121.06 ; 114.17,134.84 114.17,146.65 ; 86.61,149.61 82.68,153.54 -82.68,153.54 -86.61,149.61 -86.61,-149.61 -82.68,-153.54 82.68,-153.54 86.61,-149.61 86.62,149.61 ; 86.61,149.61 86.62,149.61
3D body: height 7, standoff 0, extent -125.98,-44.29 -114.17,-32.48
3D body: height 24, standoff 0, extent -114.17,-44.29 -107.53,-32.48
3D body: height 24, standoff 17, extent -107.53,-44.29 -82.68,-32.48
3D body: height 7, standoff 0, extent 114.17,-44.29 125.98,-32.48
3D body: height 24, standoff 0, extent 107.53,-44.29 114.17,-32.48
3D body: height 24, standoff 17, extent 82.68,-44.29 107.53,-32.48
3D body: height 24, standoff 17, extent 82.68,-18.7 107.53,-6.89
3D body: height 24, standoff 0, extent 107.53,-18.7 114.17,-6.89
3D body: height 7, standoff 0, extent 114.17,-18.7 125.98,-6.89
3D body: height 7, standoff 0, extent 114.17,6.89 125.98,18.7
3D body: height 24, standoff 0, extent 107.53,6.89 114.17,18.7
3D body: height 24, standoff 17, extent 82.68,6.89 107.53,18.7
3D body: height 7, standoff 0, extent 114.17,32.48 125.98,44.29
3D body: height 24, standoff 0, extent 107.53,32.48 114.17,44.29
3D body: height 24, standoff 17, extent 82.68,32.48 107.53,44.29
3D body: height 7, standoff 0, extent 114.17,58.07 125.98,69.88
3D body: height 24, standoff 0, extent 107.53,58.07 114.17,69.88
3D body: height 24, standoff 17, extent 82.68,58.07 107.53,69.88
3D body: height 7, standoff 0, extent 114.17,83.66 125.98,95.47
3D body: height 24, standoff 0, extent 107.53,83.66 114.17,95.47
3D body: height 24, standoff 17, extent 82.68,83.66 107.53,95.47
3D body: height 7, standoff 0, extent 114.17,109.25 125.98,121.06
3D body: height 24, standoff 0, extent 107.53,109.25 114.17,121.06
3D body: height 24, standoff 17, extent 82.68,109.25 107.53,121.06
3D body: height 7, standoff 0, extent 114.17,134.84 125.98,146.65
3D body: height 24, standoff 0, extent 107.53,134.84 114.17,146.65
3D body: height 24, standoff 17, extent 82.68,134.84 107.53,146.65
3D body: height 24, standoff 17, extent -107.53,-18.7 -82.68,-6.89
3D body: height 24, standoff 0, extent -114.17,-18.7 -107.53,-6.89
3D body: height 7, standoff 0, extent -125.98,-18.7 -114.17,-6.89
3D body: height 24, standoff 17, extent -107.53,6.89 -82.68,18.7
3D body: height 24, standoff 0, extent -114.17,6.89 -107.53,18.7
3D body: height 7, standoff 0, extent -125.98,6.89 -114.17,18.7
3D body: height 24, standoff 17, extent -107.53,32.48 -82.68,44.29
3D body: height 24, standoff 0, extent -114.17,32.48 -107.53,44.29
3D body: height 7, standoff 0, extent -125.98,32.48 -114.17,44.29
3D body: height 24, standoff 17, extent -107.53,58.07 -82.68,69.88
3D body: height 24, standoff 0, extent -114.17,58.07 -107.53,69.88
3D body: height 7, standoff 0, extent -125.98,58.07 -114.17,69.88
3D body: height 24, standoff 17, extent -107.53,83.66 -82.68,95.47
3D body: height 24, standoff 0, extent -114.17,83.66 -107.53,95.47
3D body: height 7, standoff 0, extent -125.98,83.66 -114.17,95.47
3D body: height 24, standoff 17, extent -107.53,109.25 -82.68,121.06
3D body: height 24, standoff 0, extent -114.17,109.25 -107.53,121.06
3D body: height 7, standoff 0, extent -125.98,109.25 -114.17,121.06
3D body: height 7, standoff 0, extent -125.98,134.84 -114.17,146.65
3D body: height 24, standoff 0, extent -114.17,134.84 -107.53,146.65
3D body: height 24, standoff 17, extent -107.53,134.84 -82.68,146.65
3D body: height 40, standoff 0, extent -86.61,-153.54 86.61,153.54
3D body: height 7, standoff 0, extent -125.98,-69.88 -114.17,-58.07
3D body: height 24, standoff 0, extent -114.17,-69.88 -107.53,-58.07
3D body: height 24, standoff 17, extent -107.53,-69.88 -82.68,-58.07
3D body: height 7, standoff 0, extent 114.17,-69.88 125.98,-58.07
3D body: height 24, standoff 0, extent 107.53,-69.88 114.17,-58.07
3D body: height 24, standoff 17, extent 82.68,-69.88 107.53,-58.07
3D body: height 24, standoff 17, extent 82.68,-95.47 107.53,-83.66
3D body: height 24, standoff 0, extent 107.53,-95.47 114.17,-83.66
3D body: height 7, standoff 0, extent 114.17,-95.47 125.98,-83.66
3D body: height 24, standoff 17, extent -107.53,-95.47 -82.68,-83.66
3D body: height 24, standoff 0, extent -114.17,-95.47 -107.53,-83.66
3D body: height 7, standoff 0, extent -125.98,-95.47 -114.17,-83.66
3D body: height 7, standoff 0, extent -125.98,-146.65 -114.17,-134.84
3D body: height 24, standoff 0, extent -114.17,-146.65 -107.53,-134.84
3D body: height 24, standoff 17, extent -107.53,-146.65 -82.68,-134.84
3D body: height 7, standoff 0, extent 114.17,-146.65 125.98,-134.84
3D body: height 24, standoff 0, extent 107.53,-146.65 114.17,-134.84
3D body: height 24, standoff 17, extent 82.68,-146.65 107.53,-134.84
3D body: height 24, standoff 17, extent 82.68,-121.06 107.53,-109.25
3D body: height 24, standoff 0, extent 107.53,-121.06 114.17,-109.25
3D body: height 7, standoff 0, extent 114.17,-121.06 125.98,-109.25
3D body: height 24, standoff 17, extent -107.53,-121.06 -82.68,-109.25
3D body: height 24, standoff 0, extent -114.17,-121.06 -107.53,-109.25
3D body: height 7, standoff 0, extent -125.98,-121.06 -114.17,-109.25